# Altium footprint library Pcb_Boards.PcbLib: 3 footprints
Each footprint in its own frame and in the unit in brackets; x right, y up, seen from the top. Pads: shape width x height; smd on the part's side, far side on the other; paste and mask are expansions set on the pad; w line width, h text height; cw(c..) or ccw(c..) is an arc to the next point about the centre after c.
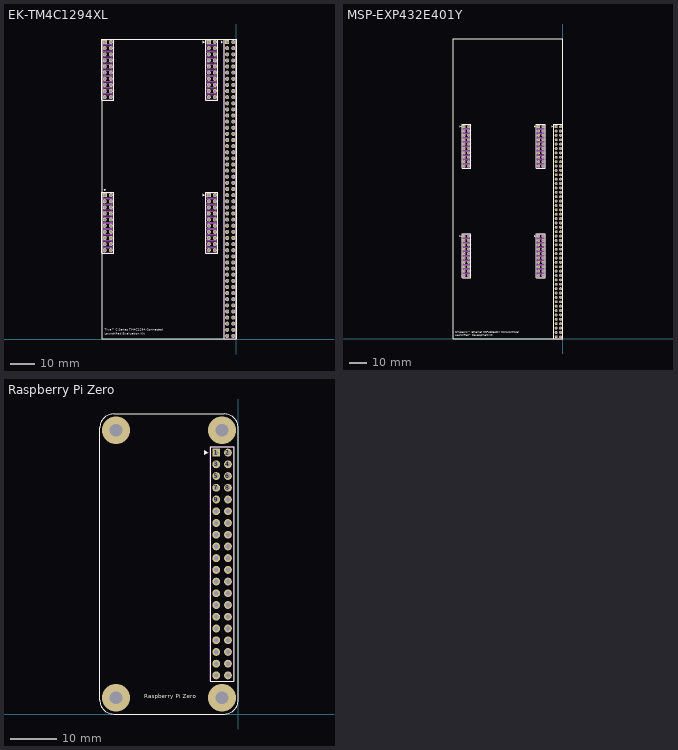
[diagram p0: the footprints below, top view; thin cyan lines are the x and y axes]

## EK-TM4C1294XL [mm] "Tiva™ C Series TM4C1294 Connected  LaunchPad Evaluation Kit"
pads (178):
  rect 1.7x1.7 hole 1.02: 1(-3.81,123.19) 99(-54.61,123.19) 119(-11.43,123.19) 139(-54.61,59.69) 159(-11.43,59.69)
  round 1.7 hole 1.02: 2(-1.27,123.19) 3(-3.81,120.65) 4(-1.27,120.65) 5(-3.81,118.11) 6(-1.27,118.11) 7(-3.81,115.57) 8(-1.27,115.57) 9(-3.81,113.03) 10(-1.27,113.03) 11(-3.81,110.49) 12(-1.27,110.49) 13(-3.81,107.95) 14(-1.27,107.95) 15(-3.81,105.41) 16(-1.27,105.41) 17(-3.81,102.87) 18(-1.27,102.87) 19(-3.81,100.33) 20(-1.27,100.33) 21(-3.81,97.79) 22(-1.27,97.79) 23(-3.81,95.25) 24(-1.27,95.25) 25(-3.81,92.71) 26(-1.27,92.71) 27(-3.81,90.17) 28(-1.27,90.17) 29(-3.81,87.63) 30(-1.27,87.63) 31(-3.81,85.09) 32(-1.27,85.09) 33(-3.81,82.55) 34(-1.27,82.55) 35(-3.81,80.01) 36(-1.27,80.01) 37(-3.81,77.47) 38(-1.27,77.47) 39(-3.81,74.93) 40(-1.27,74.93) 41(-3.81,72.39) 42(-1.27,72.39) 43(-3.81,69.85) 44(-1.27,69.85) 45(-3.81,67.31) 46(-1.27,67.31) 47(-3.81,64.77) 48(-1.27,64.77) 49(-3.81,62.23) 50(-1.27,62.23) 51(-3.81,59.69) 52(-1.27,59.69) 53(-3.81,57.15) 54(-1.27,57.15) 55(-3.81,54.61) 56(-1.27,54.61) 57(-3.81,52.07) 58(-1.27,52.07) 59(-3.81,49.53) 60(-1.27,49.53) 61(-3.81,46.99) 62(-1.27,46.99) 63(-3.81,44.45) 64(-1.27,44.45) 65(-3.81,41.91) 66(-1.27,41.91) 67(-3.81,39.37) 68(-1.27,39.37) 69(-3.81,36.83) 70(-1.27,36.83) 71(-3.81,34.29) 72(-1.27,34.29) 73(-3.81,31.75) 74(-1.27,31.75) 75(-3.81,29.21) 76(-1.27,29.21) 77(-3.81,26.67) 78(-1.27,26.67) 79(-3.81,24.13) 80(-1.27,24.13) 81(-3.81,21.59) 82(-1.27,21.59) 83(-3.81,19.05) 84(-1.27,19.05) 85(-3.81,16.51) 86(-1.27,16.51) 87(-3.81,13.97) 88(-1.27,13.97) 89(-3.81,11.43) 90(-1.27,11.43) 91(-3.81,8.89) 92(-1.27,8.89) 93(-3.81,6.35) 94(-1.27,6.35) 95(-3.81,3.81) 96(-1.27,3.81) 97(-3.81,1.27) 98(-1.27,1.27) 100(-52.07,123.19) 101(-54.61,120.65) 102(-52.07,120.65) 103(-54.61,118.11) 104(-52.07,118.11) 105(-54.61,115.57) 106(-52.07,115.57) 107(-54.61,113.03) 108(-52.07,113.03) 109(-54.61,110.49) 110(-52.07,110.49) 111(-54.61,107.95) 112(-52.07,107.95) 113(-54.61,105.41) 114(-52.07,105.41) 115(-54.61,102.87) 116(-52.07,102.87) 117(-54.61,100.33) 118(-52.07,100.33) 120(-8.89,123.19) 121(-11.43,120.65) 122(-8.89,120.65) 123(-11.43,118.11) 124(-8.89,118.11) 125(-11.43,115.57) 126(-8.89,115.57) 127(-11.43,113.03) 128(-8.89,113.03) 129(-11.43,110.49) 130(-8.89,110.49) 131(-11.43,107.95) 132(-8.89,107.95) 133(-11.43,105.41) 134(-8.89,105.41) 135(-11.43,102.87) 136(-8.89,102.87) 137(-11.43,100.33) 138(-8.89,100.33) 140(-52.07,59.69) 141(-54.61,57.15) 142(-52.07,57.15) 143(-54.61,54.61) 144(-52.07,54.61) 145(-54.61,52.07) 146(-52.07,52.07) 147(-54.61,49.53) 148(-52.07,49.53) 149(-54.61,46.99) 150(-52.07,46.99) 151(-54.61,44.45) 152(-52.07,44.45) 153(-54.61,41.91) 154(-52.07,41.91) 155(-54.61,39.37) 156(-52.07,39.37) 157(-54.61,36.83) 158(-52.07,36.83) 160(-8.89,59.69) 161(-11.43,57.15) 162(-8.89,57.15) 163(-11.43,54.61) 164(-8.89,54.61) 165(-11.43,52.07) 166(-8.89,52.07) 167(-11.43,49.53) 168(-8.89,49.53) 169(-11.43,46.99) 170(-8.89,46.99) 171(-11.43,44.45) 172(-8.89,44.45) 173(-11.43,41.91) 174(-8.89,41.91) 175(-11.43,39.37) 176(-8.89,39.37) 177(-11.43,36.83) 178(-8.89,36.83)
Top Overlay:
  region: -5.556,123.19 -6.35,122.694 -6.35,123.686
  region: -13.176,123.19 -13.97,122.694 -13.97,123.686
  region: -13.176,59.69 -13.97,59.194 -13.97,60.186
  region: -54.61,61.436 -55.106,62.23 -54.114,62.23
  lines w0.2: -55.88,35.56 -50.8,35.56 -50.8,60.96 -55.88,60.96 -55.88,35.56 ; -55.88,99.06 -50.8,99.06 -50.8,124.46 -55.88,124.46 -55.88,99.06 ; -12.7,35.56 -7.62,35.56 -7.62,60.96 -12.7,60.96 -12.7,35.56 ; -12.7,99.06 -7.62,99.06 -7.62,124.46 -12.7,124.46 -12.7,99.06 ; -5.08,0 -5.08,124.46 0,124.46 0,0 -5.08,0
  lines w0.254: 0,0 -55.88,0 -55.88,124.46 0,124.46 0,0 ; 0,0 0,0
  text "LaunchPad Evaluation Kit" at -54.61,1.27 h1.52
  text "Tiva™ C Series TM4C1294 Connected" at -54.61,3.048 h1.52
Mechanical 13:
  drawing of 2564 lines, arcs and shapes, not listed
3D body "User Library-PLD-20.step": height 8.4, standoff -3, extent -55.84,35.56 -50.84,60.96
3D body "User Library-PLD-20.step": height 8.4, standoff -3, extent -55.84,99.06 -50.84,124.46
3D body "User Library-PLD-20.step": height 8.4, standoff -3, extent -12.66,35.56 -7.66,60.96
3D body "User Library-PLD-20.step": height 8.4, standoff -3, extent -12.66,99.06 -7.66,124.46

## MSP-EXP432E401Y [mm] "SimpleLink™ Ethernet MSP432E401Y Microcontroller  LaunchPad™ Development Kit"
pads (178):
  rect 1.7x1.7 hole 1.02: 1(-3.81,123.19) 99(-57.15,123.19) 119(-13.97,123.19) 139(-57.15,59.69) 159(-13.97,59.69)
  round 1.7 hole 1.02: 2(-1.27,123.19) 3(-3.81,120.65) 4(-1.27,120.65) 5(-3.81,118.11) 6(-1.27,118.11) 7(-3.81,115.57) 8(-1.27,115.57) 9(-3.81,113.03) 10(-1.27,113.03) 11(-3.81,110.49) 12(-1.27,110.49) 13(-3.81,107.95) 14(-1.27,107.95) 15(-3.81,105.41) 16(-1.27,105.41) 17(-3.81,102.87) 18(-1.27,102.87) 19(-3.81,100.33) 20(-1.27,100.33) 21(-3.81,97.79) 22(-1.27,97.79) 23(-3.81,95.25) 24(-1.27,95.25) 25(-3.81,92.71) 26(-1.27,92.71) 27(-3.81,90.17) 28(-1.27,90.17) 29(-3.81,87.63) 30(-1.27,87.63) 31(-3.81,85.09) 32(-1.27,85.09) 33(-3.81,82.55) 34(-1.27,82.55) 35(-3.81,80.01) 36(-1.27,80.01) 37(-3.81,77.47) 38(-1.27,77.47) 39(-3.81,74.93) 40(-1.27,74.93) 41(-3.81,72.39) 42(-1.27,72.39) 43(-3.81,69.85) 44(-1.27,69.85) 45(-3.81,67.31) 46(-1.27,67.31) 47(-3.81,64.77) 48(-1.27,64.77) 49(-3.81,62.23) 50(-1.27,62.23) 51(-3.81,59.69) 52(-1.27,59.69) 53(-3.81,57.15) 54(-1.27,57.15) 55(-3.81,54.61) 56(-1.27,54.61) 57(-3.81,52.07) 58(-1.27,52.07) 59(-3.81,49.53) 60(-1.27,49.53) 61(-3.81,46.99) 62(-1.27,46.99) 63(-3.81,44.45) 64(-1.27,44.45) 65(-3.81,41.91) 66(-1.27,41.91) 67(-3.81,39.37) 68(-1.27,39.37) 69(-3.81,36.83) 70(-1.27,36.83) 71(-3.81,34.29) 72(-1.27,34.29) 73(-3.81,31.75) 74(-1.27,31.75) 75(-3.81,29.21) 76(-1.27,29.21) 77(-3.81,26.67) 78(-1.27,26.67) 79(-3.81,24.13) 80(-1.27,24.13) 81(-3.81,21.59) 82(-1.27,21.59) 83(-3.81,19.05) 84(-1.27,19.05) 85(-3.81,16.51) 86(-1.27,16.51) 87(-3.81,13.97) 88(-1.27,13.97) 89(-3.81,11.43) 90(-1.27,11.43) 91(-3.81,8.89) 92(-1.27,8.89) 93(-3.81,6.35) 94(-1.27,6.35) 95(-3.81,3.81) 96(-1.27,3.81) 97(-3.81,1.27) 98(-1.27,1.27) 100(-54.61,123.19) 101(-57.15,120.65) 102(-54.61,120.65) 103(-57.15,118.11) 104(-54.61,118.11) 105(-57.15,115.57) 106(-54.61,115.57) 107(-57.15,113.03) 108(-54.61,113.03) 109(-57.15,110.49) 110(-54.61,110.49) 111(-57.15,107.95) 112(-54.61,107.95) 113(-57.15,105.41) 114(-54.61,105.41) 115(-57.15,102.87) 116(-54.61,102.87) 117(-57.15,100.33) 118(-54.61,100.33) 120(-11.43,123.19) 121(-13.97,120.65) 122(-11.43,120.65) 123(-13.97,118.11) 124(-11.43,118.11) 125(-13.97,115.57) 126(-11.43,115.57) 127(-13.97,113.03) 128(-11.43,113.03) 129(-13.97,110.49) 130(-11.43,110.49) 131(-13.97,107.95) 132(-11.43,107.95) 133(-13.97,105.41) 134(-11.43,105.41) 135(-13.97,102.87) 136(-11.43,102.87) 137(-13.97,100.33) 138(-11.43,100.33) 140(-54.61,59.69) 141(-57.15,57.15) 142(-54.61,57.15) 143(-57.15,54.61) 144(-54.61,54.61) 145(-57.15,52.07) 146(-54.61,52.07) 147(-57.15,49.53) 148(-54.61,49.53) 149(-57.15,46.99) 150(-54.61,46.99) 151(-57.15,44.45) 152(-54.61,44.45) 153(-57.15,41.91) 154(-54.61,41.91) 155(-57.15,39.37) 156(-54.61,39.37) 157(-57.15,36.83) 158(-54.61,36.83) 160(-11.43,59.69) 161(-13.97,57.15) 162(-11.43,57.15) 163(-13.97,54.61) 164(-11.43,54.61) 165(-13.97,52.07) 166(-11.43,52.07) 167(-13.97,49.53) 168(-11.43,49.53) 169(-13.97,46.99) 170(-11.43,46.99) 171(-13.97,44.45) 172(-11.43,44.45) 173(-13.97,41.91) 174(-11.43,41.91) 175(-13.97,39.37) 176(-11.43,39.37) 177(-13.97,36.83) 178(-11.43,36.83)
Top Overlay:
  region: -5.556,123.19 -6.35,122.694 -6.35,123.686
  region: -15.716,123.19 -16.51,122.694 -16.51,123.686
  region: -58.896,123.19 -59.69,122.694 -59.69,123.686
  region: -15.716,59.69 -16.51,59.194 -16.51,60.186
  region: -58.896,59.69 -59.69,59.194 -59.69,60.186
  lines w0.2: -58.42,35.56 -58.42,60.96 -53.34,60.96 -53.34,35.56 -58.42,35.56 ; -58.42,99.06 -58.42,124.46 -53.34,124.46 -53.34,99.06 -58.42,99.06 ; -15.24,35.56 -15.24,60.96 -10.16,60.96 -10.16,35.56 -15.24,35.56 ; -15.24,99.06 -15.24,124.46 -10.16,124.46 -10.16,99.06 -15.24,99.06 ; -5.08,0 -5.08,124.46 0,124.46 0,0 -5.08,0
  lines w0.254: -63.5,0 -63.5,173.99 0,173.99 ; -63.5,0 -63.5,0 ; -63.5,0 0,0 0,173.99 ; 0,173.99 0,173.99
  text "SimpleLink™ Ethernet MSP432E401Y Microcontroller" at -62.23,3.048 h1.52
  text "LaunchPad™ Development Kit" at -62.23,1.27 h1.52
Mechanical 13:
  drawing of 2564 lines, arcs and shapes, not listed
3D body "User Library-PLD-20.step": height 8.4, standoff -3, extent -15.2,99.06 -10.2,124.46
3D body "User Library-PLD-20.step": height 8.4, standoff -3, extent -58.38,99.06 -53.38,124.46
3D body "User Library-PLD-20.step": height 8.4, standoff -3, extent -15.2,35.56 -10.2,60.96
3D body "User Library-PLD-20.step": height 8.4, standoff -3, extent -58.38,35.56 -53.38,60.96

## Raspberry Pi Zero [mm]
pads (40):
  rect 1.7x1.7 hole 1.02: 1(-4.77,56.63)
  round 1.7 hole 1.02: 2(-2.23,56.63) 3(-4.77,54.09) 4(-2.23,54.09) 5(-4.77,51.55) 6(-2.23,51.55) 7(-4.77,49.01) 8(-2.23,49.01) 9(-4.77,46.47) 10(-2.23,46.47) 11(-4.77,43.93) 12(-2.23,43.93) 13(-4.77,41.39) 14(-2.23,41.39) 15(-4.77,38.85) 16(-2.23,38.85) 17(-4.77,36.31) 18(-2.23,36.31) 19(-4.77,33.77) 20(-2.23,33.77) 21(-4.77,31.23) 22(-2.23,31.23) 23(-4.77,28.69) 24(-2.23,28.69) 25(-4.77,26.15) 26(-2.23,26.15) 27(-4.77,23.61) 28(-2.23,23.61) 29(-4.77,21.07) 30(-2.23,21.07) 31(-4.77,18.53) 32(-2.23,18.53) 33(-4.77,15.99) 34(-2.23,15.99) 35(-4.77,13.45) 36(-2.23,13.45) 37(-4.77,10.91) 38(-2.23,10.91) 39(-4.77,8.37) 40(-2.23,8.37)
via -3.5,61.5 diameter 6 hole 2.75
via -26.5,61.5 diameter 6 hole 2.75
via -26.5,3.5 diameter 6 hole 2.75
via -3.5,3.5 diameter 6 hole 2.75
Top Overlay:
  region: -6.516,56.63 -7.31,56.134 -7.31,57.126
  lines w0.2: -30,3 ccw(c-27,3) -27,0 -3,0 ccw(c-3,3) 0,3 0,62 ccw(c-3,62) -3,65 -27,65 ccw(c-27,62) -30,62 -30,3 ; -6.04,7.1 -0.96,7.1 -0.96,57.9 -6.04,57.9 -6.04,7.1
  text "Raspberry Pi Zero" at -20.4,3.1 h1.52
Mechanical 13:
  drawing of 484 lines, arcs and shapes, not listed
3D body "PBD-40.STEP": height 8.5, standoff -3, extent -6.02,6.85 -1.02,58.15